# EAGLE library part 770669-1 (library 770669-1)
Body Features: Connector & Keying Code 1 | Primary Product Color Black | Configuration Features: Number of Rows 3 | PCB Mount Orientation Right Angle | Number of Positions 23 | Contact Features: Contact Mating Area Plating Material Tin | Contact Current Rating (Max) 8 AMP | Contact Type Pin | Housing Features: Centerline (Pitch) 4 MM | Centerline (Pitch) .157 INCH | Industry Standards: UL Flammability Rating UL 94V-0 | Mechanical Attachment: PCB Mount Retention With | PCB Mount Alignment With | Connector Mo Source: Datasheet <https://www.te.com/commerce/DocumentDelivery/DDEController?Action=srchrtrv&DocNm=1-1773979-2&DocType=Data Sheet&DocLang=English&PartCntxt=770669-1&DocFormat=pdf>
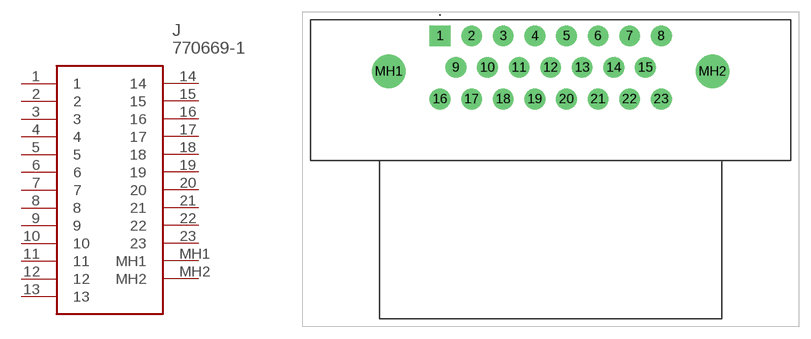
[diagram p0: symbol with the pads of 7706691; footprint 7706691]

Designator prefix J

## 770669-1 (Description: Body Features: Connector & Keying Code 1 | Primary Product Color Black | Configuration Features: Number of Rows 3 | PCB Mount Orientation Right Angle | Number of Positions 23 | Contact Features: Contact Mating Area Plating Material Tin | Contact Current Rating (Max) 8 AMP | Contact Type Pin | Housing Features: Centerline (Pitch) 4 MM | Centerline (Pitch) .157 INCH | Industry Standards: UL Flammability Rating UL 94V-0 | Mechanical Attachment: PCB Mount Retention With | PCB Mount Alignment With | Connector Mo; Height: 32.3mm; Manufacturer_Name: TE Connectivity; Manufacturer_Part_Number: 770669-1; Mouser_Part_Number: 571-770669-1; Mouser_Price-Stock: https://www.mouser.co.uk/ProductDetail/TE-Connectivity/770669-1?qs=bVE8zYB%2Fq2eQrARJAzxzTA%3D%3D)  [7706691]
1  1
2  2
3  3
4  4
5  5
6  6
7  7
8  8
9  9
10  10
11  11
12  12
13  13
14  14
15  15
16  16
17  17
18  18
19  19
20  20
21  21
22  22
23  23
MH1  MH1
MH2  MH2

## Footprint 7706691 (pad centres in mm)
770669-1
drill 1.75 pad 2.625 square: 1 0,0
drill 1.75 pad 2.625: 2 4,0; 3 8,0; 4 12,0; 5 16,0; 6 20,0; 7 24,0; 8 28,0; 9 2,-4; 10 6,-4; 11 10,-4; 12 14,-4; 13 18,-4; 14 22,-4; 15 26,-4; 16 0,-8; 17 4,-8; 18 8,-8; 19 12,-8; 20 16,-8; 21 20,-8; 22 24,-8; 23 28,-8
drill 2.85 pad 4.275: MH1 -6.5,-4.5; MH2 34.5,-4.5